# EAGLE library part UB-M5BR-DM14 (library con-usb)
mini-B Receptacle, JST
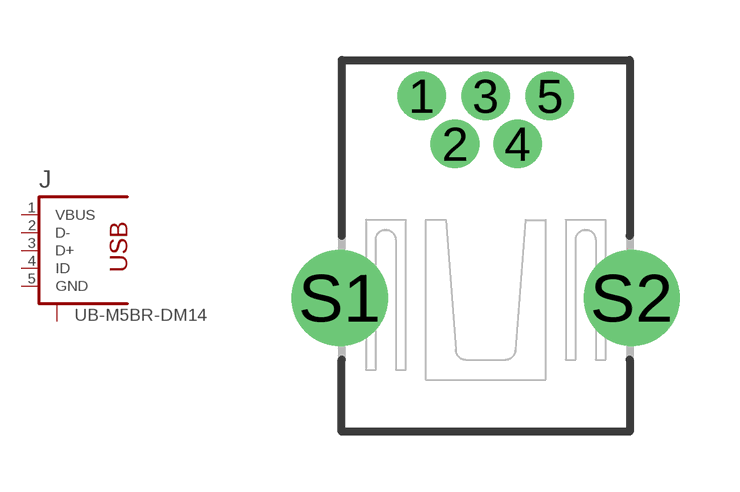
[diagram p8: symbol with the pads of UB-M5BR-DM14; footprint UB-M5BR-DM14]

Designator prefix J

## UB-M5BR-DM14  [UB-M5BR-DM14]
1  VBUS  pas
2  D-  pas
3  D+  pas
4  ID  pas
5  GND  pas
S1  S1  pas
S2  S2  pas

## Footprint UB-M5BR-DM14 (pad centres in mm)
JST - UB series mini-B Type Through-hole mount
drill 0.711: 1 -1.6,0; 2 -0.77,-1.2; 3 0,0; 4 0.8,-1.2; 5 1.6,0
drill 1.6: S1 -3.65,-5.05; S2 3.65,-5.05